# EAGLE library part OKOKOKEAGLELIBRARIES_LT1783 (library rose)
1.25MHz, Over-The-Top Micropower, Rail-to-Rail Input and Output Op Amp in SOT-23 DATASHEET: http://cds.linear.com/docs/en/datasheet/1783fd.pdf MFN:LT1783CS6#TRMPBF
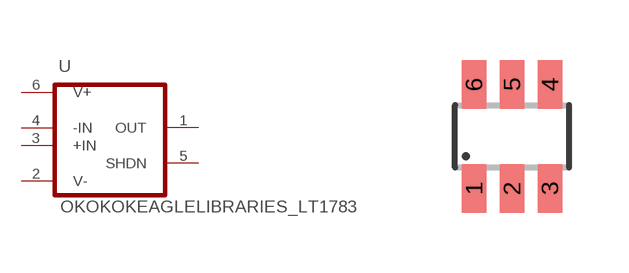
[diagram p2: symbol with the pads of OKOKOKEAGLELIBRARIES_TSOT-23-6; footprint OKOKOKEAGLELIBRARIES_TSOT-23-6]

Designator prefix U

## OKOKOKEAGLELIBRARIES_LT1783 (MPN: LT1783CS6#TRMPBF)  [OKOKOKEAGLELIBRARIES_TSOT-23-6]
1  OUT
2  V-
3  +IN
4  -IN
5  SHDN
6  V+

## Footprint OKOKOKEAGLELIBRARIES_TSOT-23-6 (pad centres in mm)
smd 0.62 x 1.22: 1 -0.925,-1.325; 2 0.025,-1.325; 3 0.975,-1.325; 4 0.975,1.275; 5 0.025,1.275; 6 -0.925,1.275